# Altium schematic symbol library Passive_Devices.SchLib: 30 symbols
Pins are listed as number, name and electrical type; pins without a type are passive.

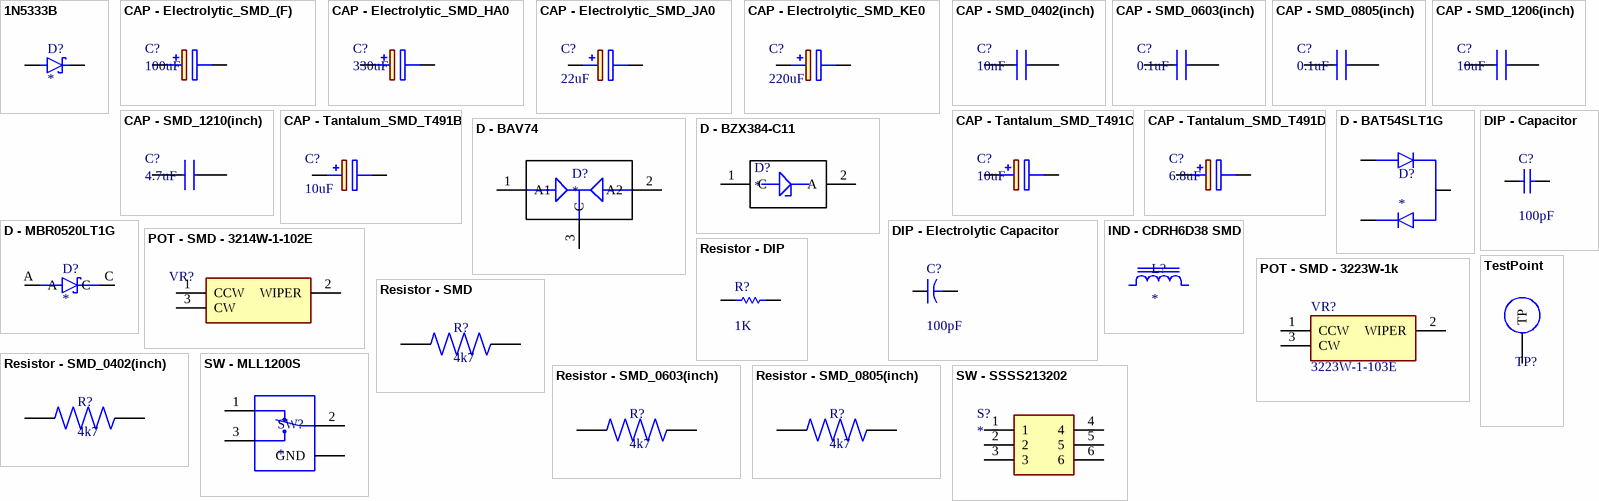
[diagram p0: symbols 1N5333B to TestPoint]

## 1N5333B
designator D?
Zener Diode 3.3 V 5 W Â±5% Through Hole Axial; MP: 1N5333B; MF: ON Semiconductor; Package: AXIAL-2 ON Semiconductor; Value: *; Digi-Key_Part_Number: 1N5333BGOS-ND; Check_prices: https://www.snapeda.com/parts/1N5333B/Onsemi/view-part/?ref=eda; SnapEDA_Link: https://www.snapeda.com/parts/1N5333B/Onsemi/view-part/?ref=snap
footprint DIOAD1543W101L889D368
pins: A, C K

## CAP - Electrolytic_SMD_(F)
designator C?, comment 100uF
100uF SMD Capacitor Polarised
footprint CAP_Electrolytic_(F) (Aluminium Electrolytic Capacitors - SMD - (F))
pins: 1 +, 2 -

## CAP - Electrolytic_SMD_HA0
designator C?, comment 330uF
330uF SMD Capacitor Polarised
footprint CAP_Electrolytic_HA0 (Aluminium Electrolytic Capacitors - SMD - HA0)
pins: 1 +, 2 -

## CAP - Electrolytic_SMD_JA0
designator C?, comment 22uF
22uF SMD Capacitor Polarised
footprint CAP_Electrolytic_JA0 (Aluminium Electrolytic Capacitors - SMD - JA0)
pins: 1 +, 2 -

## CAP - Electrolytic_SMD_KE0
designator C?, comment 220uF
220uF SMD Capacitor Polarised
footprint CAP_Electrolytic_KE0 (Aluminium Electrolytic Capacitors - SMD - KE0)
pins: 1 +, 2 -

## CAP - SMD_0402(inch)
designator C?, comment 10nF
SMD Ceramic Capacitor
footprint 0402
pins: 1, 2

## CAP - SMD_0603(inch)
designator C?, comment 0.1uF
SMD Ceramic Capacitor
footprint 0603 (0603 case (inch))
pins: 1, 2

## CAP - SMD_0805(inch)
designator C?, comment 0.1uF
SMD Ceramic Capacitor
footprint 0805 (0805 case (inch))
pins: 1, 2

## CAP - SMD_1206(inch)
designator C?, comment 10uF
SMD Ceramic Capacitor
footprint 1206
pins: 1, 2

## CAP - SMD_1210(inch)
designator C?, comment 4.7uF
SMD Ceramic Capacitor
footprint 1210
pins: 1, 2

## CAP - Tantalum_SMD_T491B
designator C?, comment 10uF
10uF Tantalum SMD Capacitor Polarised
footprint T491B (Kemet Tantalum case B)
pins: 1 +, 2 -

## CAP - Tantalum_SMD_T491C
designator C?, comment 10uF
10uF Tantalum SMD Capacitor Polarised
footprint T491C (Kemet Tantalum case C)
pins: 1 +, 2 -

## CAP - Tantalum_SMD_T491D
designator C?, comment 6.8uF
6.8uF Tantalum SMD Capacitor Polarised
footprint T491D (Kemet Tantalum case D)
pins: 1 +, 2 -

## D - BAT54SLT1G
designator D?
Diode Array 1 Pair Series Connection Schottky 30 V 200mA (DC) Surface Mount TO-236-3, SC-59, SOT-23-3
footprint SOT-23-3
pins: 1, 2, 3

## D - BAV74
designator D?
footprint SOT23
pins: 1 A1, 2 A2, 3 C

## D - BZX384-C11
designator D?
footprint SOD323-2
pins: 1 C, 2 A

## D - MBR0520LT1G
designator D?
Diode Schottky 20 V 500mA Surface Mount SOD-123; MP: MBR0520LT1G; MF: ON Semiconductor; Value: *; SnapEDA_Link: https://www.snapeda.com/parts/MBR0520LT1G/Onsemi/view-part/?ref=snap; Purchase-URL: https://pricing.snapeda.com/search/part/MBR0520LT1G/?ref=eda; Check_prices: https://www.snapeda.com/parts/MBR0520LT1G/Onsemi/view-part/?ref=eda; Availability: In Stock; Price: None; Package: SOD-123-2 ON Semiconductor
footprint SOD-123-2
pins: A, C

## DIP - Capacitor
designator C?  value 100pF  (hidden comment: *)
Capacitor; Published: 8-Jun-2000; LatestRevisionDate: 17-Jul-2002; LatestRevisionNote: Re-released for DXP Platform.; PackageReference: RAD-0.3; Publisher: Altium Limited; PackageDescription: Radial Cap, Thru-Hole; 2 Leads; 0.3 in Pin Spacing
footprint DIP_Capacitor_5_08mm (Radial Capacitor, Thru-Hole; 2 Leads; 5.08mm Pin Spacing)
footprint DIP_Capacitor_2_54mm (Radial Capacitor, Thru-Hole; 2 Leads; 2.54mm Pin Spacing)
pins: 1, 2

## DIP - Electrolytic Capacitor
designator C?  value 100pF  (hidden comment: *)
Capacitor; Published: 23-Sep-2002; PackageReference: CAPR5-4X5; Publisher: Altium Limited; PackageDescription: Capacitor; 2 Leads
footprint DIP_Electrolytic_Capacitor (DIP Electrolytic Capacitor; 2 Leads; Pin spacing 5mm)
pins: 1, 2

## IND - CDRH6D38 SMD
designator L?
10uH Shielded Inductor 2A 38mOhm Max Nonstandard / CDRH6D38NP-100NC SMD; MF: Sumida America; MP: CDRH6D38; Availability: Unavailable; Price: None; Value: *; Package: Nonstandard Sumida America; Check_prices: https://www.digikey.pt/en/products/detail/sumida-america-inc/CDRH6D38NP-100NC/1207151?curr=usd&utm_campaign=buynow&utm_medium=aggregator&utm_source=octopart
footprint CDRH6D (SMD Inductor)
pins: 1, 2

## POT - SMD - 3214W-1-102E
designator VR?, comment 3214W-1-102E  (value not drawn)
Variable Resistor - 3214W-1-102E (4mm sq)
footprint 3214W1102E (4mm sq - SMD potentiometer)
pins: 1 CCW, 2 WIPER, 3 CW

## POT - SMD - 3223W-1k
designator VR?, comment 3223W-1-103E
Variable Resistor; Manufacturer_Name: Bourns; Datasheet Link: https://www.bourns.com/PDFs/3223.PDF; Manufacturer_Part_Number: 3223W-1-103E; Mouser Part Number: 652-3223W-1-103E; Mouser Price/Stock: https://www.mouser.co.uk/ProductDetail/Bourns/3223W-1-103E?qs=sV%2FnfzqxDCpAbOTXA18GuQ%3D%3D; Arrow Part Number: 3223W-1-103E; Arrow Price/Stock: https://www.arrow.com/en/products/3223w-1-103e/bourns?region=nac
footprint POT_SMD_3223W (3 pin SMD potentiometer 3 mm Square Bourns)
pins: 1 CCW, 2 WIPER, 3 CW

## Resistor - DIP
designator R?  value 1K  (hidden comment: *)
Resistor DIP; Published: 8-Jun-2000; LatestRevisionDate: 17-Jul-2002; LatestRevisionNote: Re-released for DXP Platform.; PackageReference: AXIAL-0.3; Publisher: Altium Limited; PackageDescription: Axial Device, Thru-Hole; 2 Leads; 0.3 in Pin Spacing
footprint DIP_resistor (Thru-Hole; Resistor 2 Leads; 15.24mm Pin Spacing)
pins: 1, 2

## Resistor - SMD
designator R?, comment 4k7
SMD resistor
footprint 0603 (0603 case (inch))
footprint 0402
footprint 0805 (0805 case (inch))
pins: 1, 2

## Resistor - SMD_0402(inch)
designator R?, comment 4k7
SMD resistor
footprint 0402
pins: 1, 2

## Resistor - SMD_0603(inch)
designator R?, comment 4k7
SMD resistor
footprint 0603 (0603 case (inch))
pins: 1, 2

## Resistor - SMD_0805(inch)
designator R?, comment 4k7
SMD resistor
footprint 0805 (0805 case (inch))
pins: 1, 2

## SW - MLL1200S
designator SW?
MF: TE Connectivity; MP: MLL1200S; Value: *; Package: None; Digi-Key_Purchase_URL: https://www.digikey.lt/product-detail/en/te-connectivity-alcoswitch-switches/MLL1200S/450-1577-ND/1201378?utm_source=snapeda&utm_medium=aggregator&utm_campaign=symbol; Digi-Key_Part_Number: 450-1577-ND; TE_purchase_URL: https://www.te.com/usa-en/product-1437575-1.html?te_bu=Cor&te_type=disp&te_campaign=seda_glo_cor-seda-global-disp-prtnr-fy19-seda-model-bom-cta_sma-317_1&elqCampaignId=32493; SnapEDA_Link: https://www.snapeda.com/parts/MLL1200S/TE%20Connectivity%20ALCOSWITCH%20Switches/view-part/1494234/?ref=snap
footprint SW_MLL1200S
pins: 1, 2, 3, G1 GND (power), G2 GND (power), G3 GND (power), G4 GND (power)

## SW - SSSS213202
designator S?
Switch; Manufacturer_Name: ALPS Electric; Manufacturer_Part_Number: SSSS213202; Datasheet Link: http://www.alps.com/prod/info/E/HTML/Switch/Slide/SSSS2/SSSS213202.html#Land Dimensions; Mouser Part Number: 688-SSSS213202; Mouser Price/Stock: https://www.mouser.co.uk/ProductDetail/Alps-Alpine/SSSS213202?qs=6EGMNY9ZYDRKFJ9qebDCNQ%3D%3D
footprint SMD - 6Pin SW
pins: 1, 2, 3, 4, 5, 6

## TestPoint
designator TP?  (no BOM)
footprint TestPoint
pins: 1 TP